# Altium integrated library Renesas Microprocessor SuperH.IntLib: 433 symbols (part 16 of 62)
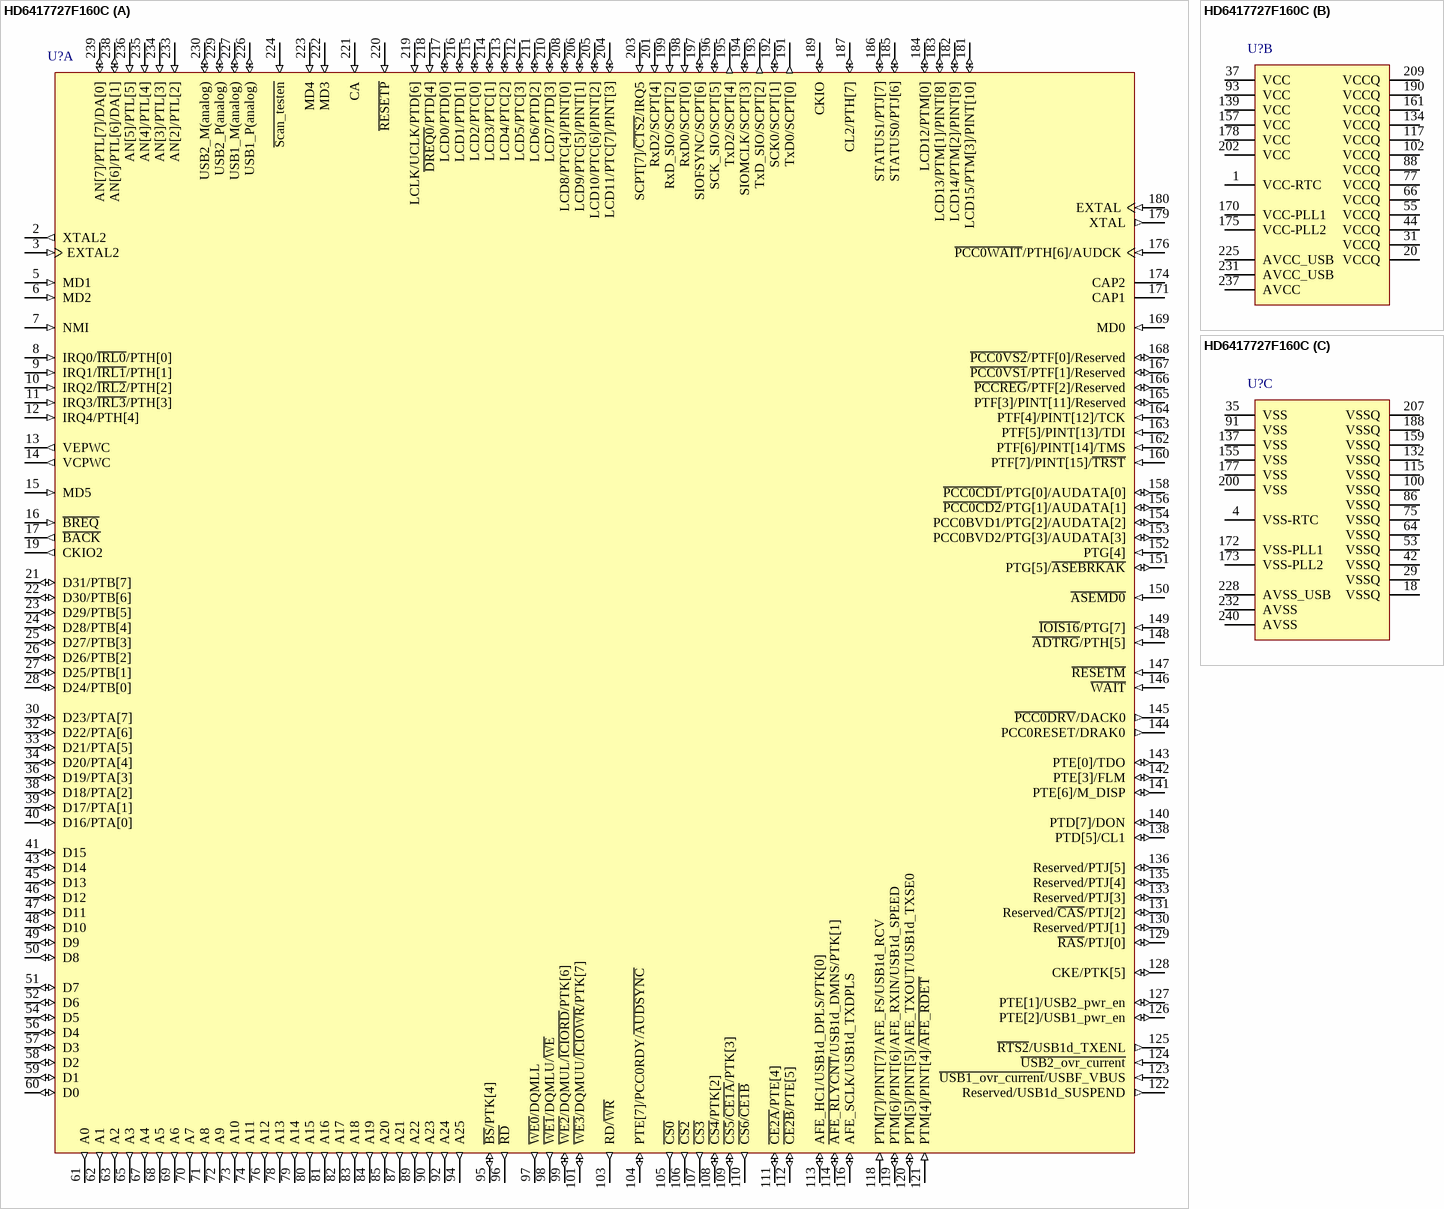
[diagram p390: symbol HD6417727F160C]

## HD6417727F160C
designator U?
32-Bit RISC Microcomputer, SH7700 Series, SH3-DSP core, 160MHz, 16K RAM, 240-pin HQFP, -20 to 75°C; Published: 28-Aug-2009; DatasheetVersion: Rev.6.00, Mar-2009; PackageVersion: Sep-2005; PackageReference: PRQP0240KC-B; Publisher: Altium Limited; PackageDescription: 240-Pin Plastic Quad Flat Pack, 32 x 32 x 3.2 mm Body, 0.5 mm Pitch; Supplier 1: Digi-Key; Supplier Part Number 1: HD6417727F160C-ND; Code_JEITA: P-HQFP240-32x32-0.50; ComponentLink1Description: Manufacturer Link; ComponentLink1URL: http://www.renesas.com/fmwk.jsp?cnt=sh7727_root.jsp&fp=/products/mpumcu/superh_family/sh7700_series/sh7727_group/; ComponentLink2Description: Datasheet; ComponentLink2URL: http://documentation.renesas.com/eng/products/mpumcu/rej09b0254_7727hm.pdf; ComponentLink3Description: Packaging Specification; ComponentLink3URL: http://sg.renesas.com/media/products/common_info/package/pdf/ic/code/prqp0240kc_b.pdf
footprint PRQP0240KC-B_N (Shrink QFP, 240-Leads, Body 32x32mm, Pitch 0.5mm, IPC Medium Density)
footprint PRQP0240KC-B_L (Shrink QFP, 240-Leads, Body 32x32mm, Pitch 0.5mm, IPC High Density)
footprint PRQP0240KC-B_M (Shrink QFP, 240-Leads, Body 32x32mm, Pitch 0.5mm, IPC Low Density)
part A pins: 2 XTAL2 (out) "On-chip RTC crystal oscillator pin", 3 EXTAL2 (in) "On-chip RTC crystal oscillator pin", 5 MD1 (in) "Clock mode setting", 6 MD2 (in) "Clock mode setting", 7 NMI (in) "Nonmaskable interrupt request", 8 IRQ0/~{IRL0}/PTH[0] (in) "External interrupt/external interrupt/input port H", 9 IRQ1/~{IRL1}/PTH[1] (in) "External interrupt/external interrupt/input port H", 10 IRQ2/~{IRL2}/PTH[2] (in) "External interrupt/external interrupt/input port H", 11 IRQ3/~{IRL3}/PTH[3] (in) "External interrupt/external interrupt/input port H", 12 IRQ4/PTH[4] (in) "External interrupt request/input port H", 13 VEPWC (out) "LCD panel VEE control", 14 VCPWC (out) "LCD panel VCC control", 15 MD5 (in) "Endian setting", 16 ~{BREQ} (in) "Bus request", 17 ~{BACK} (out) "Bus acknowledge", 19 CKIO2 (out) "System clock output", 21 D31/PTB[7] (io) "Data bus/I/O port B", 22 D30/PTB[6] (io) "Data bus/I/O port B", 23 D29/PTB[5] (io) "Data bus/I/O port B", 24 D28/PTB[4] (io) "Data bus/I/O port B", 25 D27/PTB[3] (io) "Data bus/I/O port B", 26 D26/PTB[2] (io) "Data bus/I/O port B", 27 D25/PTB[1] (io) "Data bus/I/O port B", 28 D24/PTB[0] (io) "Data bus/I/O port B", 30 D23/PTA[7] (io) "Data bus/I/O port A", 32 D22/PTA[6] (io) "Data bus/I/O port A", 33 D21/PTA[5] (io) "Data bus/I/O port A", 34 D20/PTA[4] (io) "Data bus/I/O port A", 36 D19/PTA[3] (io) "Data bus/I/O port A", 38 D18/PTA[2] (io) "Data bus/I/O port A", 39 D17/PTA[1] (io) "Data bus/I/O port A", 40 D16/PTA[0] (io) "Data bus/I/O port A", 41 D15 (io) "Data bus", 43 D14 (io) "Data bus", 45 D13 (io) "Data bus", 46 D12 (io) "Data bus", 47 D11 (io) "Data bus", 48 D10 (io) "Data bus", 49 D9 (io) "Data bus", 50 D8 (io) "Data bus", 51 D7 (io) "Data bus", 52 D6 (io) "Data bus", 54 D5 (io) "Data bus", 56 D4 (io) "Data bus", 57 D3 (io) "Data bus", 58 D2 (io) "Data bus", 59 D1 (io) "Data bus", 60 D0 (io) "Data bus", 61 A0 (out) "Address bus", 62 A1 (out) "Address bus", 63 A2 (out) "Address bus", 65 A3 (out) "Address bus", 67 A4 (out) "Address bus", 68 A5 (out) "Address bus", 69 A6 (out) "Address bus", 70 A7 (out) "Address bus", 71 A8 (out) "Address bus", 72 A9 (out) "Address bus", 73 A10 (out) "Address bus", 74 A11 (out) "Address bus", 76 A12 (out) "Address bus", 78 A13 (out) "Address bus", 79 A14 (out) "Address bus", 80 A15 (out) "Address bus", 81 A16 (out) "Address bus", 82 A17 (out) "Address bus", 83 A18 (out) "Address bus", 84 A19 (out) "Address bus", 85 A20 (out) "Address bus", 87 A21 (out) "Address bus", 89 A22 (out) "Address bus", 90 A23 (out) "Address bus", 92 A24 (out) "Address bus", 94 A25 (out) "Address bus", 95 ~{BS}/PTK[4] (io) "Bus cycle start signal/I/O port K", 96 ~{RD} (out) "Read strobe", 97 ~{WE0}/DQMLL (out) "D7-D0 select signal/DQM (SDRAM)", 98 ~{WE1}/DQMLU/~{WE} (out) "D15-D8 select signal/DQM (SDRAM)/PCMCIA WE", 99 ~{WE2}/DQMUL/~{ICIORD}/PTK[6] (io) "D23-D16 select signal/DQM (SDRAM)/PCMCIA I/O read/I/O port K", 101 ~{WE3}/DQMUU/~{ICIOWR}/PTK[7] (io) "D31-D24 select signal/DQM (SDRAM)/PCMCIA I/O write/I/O port K", 103 RD/~{WR} (out) "Read/write", 104 PTE[7]/PCC0RDY/~{AUDSYNC} (io) "I/O port E/PCMCIA0 ready/AUD synchronization", 105 ~{CS0} (out) "Chip select 0", 106 ~{CS2} (out) "Chip select 2", 107 ~{CS3} (out) "Chip select 3", 108 ~{CS4}/PTK[2] (io) "Chip select 4/I/O port K", 109 ~{CS5}/~{CE1A}/PTK[3] (io) "Chip select 5/CE1 (area 5 PCMCIA)/I/O port K", 110 ~{CS6}/~{CE1B} (out) "Chip select 6/CE1 (area 6 PCMCIA)", 111 ~{CE2A}/PTE[4] (io) "Area 5 PCMCIA card enable/I/O port E", 112 ~{CE2B}/PTE[5] (io) "Area 6 PCMCIA card enable/I/O port E", 113 AFE_HC1/USB1d_DPLS/PTK[0] (io) "AFE hardware control signal/D+ signal input/I/O port K", 114 ~{AFE_RLYCNT}/USB1d_DMNS/PTK[1] (io) "AFE relay control signal/D- signal input/I/O port K", 116 AFE_SCLK/USB1d_TXDPLS (io) "AFE clock/D+ transmit output", 118 PTM[7]/PINT[7]/AFE_FS/USB1d_RCV (in) "Input port M/port interrupt/AFE frame synchronization/receive data input", 119 PTM[6]/PINT[6]/AFE_RXIN/USB1d_SPEED (io) "Input port M/port interrupt/AFE receive data/transceiver speed control", 120 PTM[5]/PINT[5]/AFE_TXOUT/USB1d_TXSE0 (io) "Input port M/port interrupt/AFE transmit data/SE0 output", 121 PTM[4]/PINT[4]/~{AFE_RDET} (in) "Input port M/port interrupt/AFE ringing detection", 122 Reserved/USB1d_SUSPEND (out) "Reserved/Transceiver suspend state output", 123 ~{USB1_ovr_current}/USBF_VBUS (in) "USB host 1 overcurrent detection/USB function VBUS", 124 ~{USB2_ovr_current} (in) "USB host 2 overcurrent detection", 125 ~{RTS2}/USB1d_TXENL (out) "SCIF RTS pin/USB output enable pin", 126 PTE[2]/USB1_pwr_en (io) "I/O port E/USB1 voltage control", 127 PTE[1]/USB2_pwr_en (io) "I/O port E/USB2 voltage control", 128 CKE/PTK[5] (io) "CK enable (SDRAM)/I/O port K", 129 ~{RAS}/PTJ[0] (io) "RAS for SDRAM/I/O port J", 130 Reserved/PTJ[1] (io) "Reserved/I/O port J", 131 Reserved/~{CAS}/PTJ[2] (io) "Reserved/CAS for SDRAM/I/O port J", 133 Reserved/PTJ[3] (io) "Reserved/I/O port J", 135 Reserved/PTJ[4] (io) "Reserved/I/O port J", 136 Reserved/PTJ[5] (io) "Reserved/I/O port J", 138 PTD[5]/CL1 (io) "I/O port D/LCD line clock", 140 PTD[7]/DON (io) "I/O port D/LCD DISPLAY on", 141 PTE[6]/M_DISP (io) "I/O port E/LCD alternating signal/DISP signal", 142 PTE[3]/FLM (io) "I/O port E/LCD frame line marker", 143 PTE[0]/TDO (io) "I/O port E/test data output", 144 PCC0RESET/DRAK0 (out) "PCC reset/DMA request receive", 145 ~{PCC0DRV}/DACK0 (out) "PCC buffer control/DMA acknowledge 0", 146 ~{WAIT} (in) "Hardware wait request", 147 ~{RESETM} (in) "Manual reset request", 148 ~{ADTRG}/PTH[5] (in) "Analog trigger/input port H", 149 ~{IOIS16}/PTG[7] (in) "IOIS16 (PCMCIA)/input port G", 150 ~{ASEMD0} (in) "ASE mode", 151 PTG[5]/~{ASEBRKAK} (io) "Input port G/ASE break acknowledge", 152 PTG[4] (in) "Input port G", 153 PCC0BVD2/PTG[3]/AUDATA[3] (io) "PCC BVD2 pin/input port G/AUD data", 154 PCC0BVD1/PTG[2]/AUDATA[2] (io) "PCC BVD1 pin/input port G/AUD data", 156 ~{PCC0CD2}/PTG[1]/AUDATA[1] (io) "PCMCIA0 CD2 pin/input port G/AUD data", 158 ~{PCC0CD1}/PTG[0]/AUDATA[0] (io) "PCC CD1 pin/input port G/AUD data", 160 PTF[7]/PINT[15]/~{TRST} (in) "Input port F/port interrupt/test reset", 162 PTF[6]/PINT[14]/TMS (in) "Input port F/port interrupt/test mode switch", 163 PTF[5]/PINT[13]/TDI (in) "Input port F/port interrupt/test data input", 164 PTF[4]/PINT[12]/TCK (in) "Input port F/port interrupt/test clock", 165 PTF[3]/PINT[11]/Reserved (io) "Input port F/port interrupt/Reserved", 166 ~{PCCREG}/PTF[2]/Reserved (io) "PCC REG pin/input port F/Reserved", 167 ~{PCC0VS1}/PTF[1]/Reserved (io) "PCC VS1 pin/input port F/Reserved", 168 ~{PCC0VS2}/PTF[0]/Reserved (io) "PCC VS2 pin/input port F/Reserved", 169 MD0 (in) "Clock mode setting", 171 CAP1 "PLL1 external capacitance pin", 174 CAP2 "PLL2 external capacitance pin", 176 ~{PCC0WAIT}/PTH[6]/AUDCK (in) "PCC hardware wait request/input port H/AUD clock", 179 XTAL (out) "Crystal resonator", 180 EXTAL (in) "External clock/crystal resonator", 181 LCD15/PTM[3]/PINT[10] (io) "LCD data output/input port M/port interrupt", 182 LCD14/PTM[2]/PINT[9] (io) "LCD data output/input port M/port interrupt", 183 LCD13/PTM[1]/PINT[8] (io) "LCD data output/input port M/port interrupt", 184 LCD12/PTM[0] (io) "LCD data output/input port M", 185 STATUS0/PTJ[6] (io) "Processor status/I/O port J", 186 STATUS1/PTJ[7] (io) "Processor status/I/O port J", 187 CL2/PTH[7] (io) "LCD clock output/I/O port H", 189 CKIO (io) "System clock input/output", 191 TxD0/SCPT[0] (out) "Transmit data 0/SCI output port", 192 SCK0/SCPT[1] (io) "Serial clock 0/SCI I/O port", 193 TxD_SIO/SCPT[2] (out) "SIOF transmit data/SCI output port", 194 SIOMCLK/SCPT[3] (io) "SIOF clock input/SCI I/O port", 195 TxD2/SCPT[4] (out) "Transmit data 2/SCI output port", 196 SCK_SIO/SCPT[5] (io) "SIOF communication clock/SCI I/O port", 197 SIOFSYNC/SCPT[6] (io) "SIOF frame synch./SCI I/O port", 198 RxD0/SCPT[0] (in) "Receive data 0/SCI input port", 199 RxD_SIO/SCPT[2] (in) "SIOF receive data/SCI input port", 201 RxD2/SCPT[4] (in) "Receive data 2/SCI input port", 203 SCPT[7]/~{CTS2}/IRQ5 (in) "SCI input port/SCIF clear to send/external interrupt request", 204 LCD11/PTC[7]/PINT[3] (io) "LCD data out/I/O port C/port interrupt", 205 LCD10/PTC[6]/PINT[2] (io) "LCD data out/I/O port C/port interrupt", 206 LCD9/PTC[5]/PINT[1] (io) "LCD data out/I/O port C/port interrupt", 208 LCD8/PTC[4]/PINT[0] (io) "LCD data out/I/O port C/port interrupt", 210 LCD7/PTD[3] (io) "LCD data out/I/O port D", 211 LCD6/PTD[2] (io) "LCD data out/I/O port D", 212 LCD5/PTC[3] (io) "LCD data out/I/O port C", 213 LCD4/PTC[2] (io) "LCD data out/I/O port C", 214 LCD3/PTC[1] (io) "LCD data out/I/O port C", 215 LCD2/PTC[0] (io) "LCD data out/I/O port C", 216 LCD1/PTD[1] (io) "LCD data out/I/O port D", 217 LCD0/PTD[0] (io) "LCD data out/I/O port D", 218 ~{DREQ0}/PTD[4] (in) "DMA request/input port D", 219 LCLK/UCLK/PTD[6] (in) "LCD clock/USB clock/input port D", 220 ~{RESETP} (in) "Power-on reset request", 221 CA (in) "Hardware standby request", 222 MD3 (in) "Area 0 bus width setting", 223 MD4 (in) "Area 0 bus width setting", 224 ~{Scan_testen} (in) "Test pin (pull up to VccQ)", 226 USB1_P(analog) (io) "USB1 data I/O (plus)", 227 USB1_M(analog) (io) "USB1 data I/O (minus)", 229 USB2_P(analog) (io) "USB2 data I/O (plus)", 230 USB2_M(analog) (io) "USB2 data I/O (minus)", 233 AN[2]/PTL[2] (in) "A/D converter input/input port L", 234 AN[3]/PTL[3] (in) "A/D converter input/input port L", 235 AN[4]/PTL[4] (in) "A/D converter input/input port L", 236 AN[5]/PTL[5] (in) "A/D converter input/input port L", 238 AN[6]/PTL[6]/DA[1] (io) "A/D converter input/input port L/D/A converter output", 239 AN[7]/PTL[7]/DA[0] (io) "A/D converter input/input port L/D/A converter output"
part B pins: 1 VCC-RTC (power) "RTC power supply (1.9V)", 20 VCCQ (power) "Input/output power supply (3.3V)", 31 VCCQ (power) "Input/output power supply (3.3V)", 37 VCC (power) "Power supply (1.9V)", 44 VCCQ (power) "Input/output power supply (3.3V)", 55 VCCQ (power) "Input/output power supply (3.3V)", 66 VCCQ (power) "Input/output power supply (3.3V)", 77 VCCQ (power) "Input/output power supply (3.3V)", 88 VCCQ (power) "Input/output power supply (3.3V)", 93 VCC (power) "Power supply (1.9V)", 102 VCCQ (power) "Input/output power supply (3.3V)", 117 VCCQ (power) "Input/output power supply (3.3V)", 134 VCCQ (power) "Input/output power supply (3.3V)", 139 VCC (power) "Power supply (1.9V)", 157 VCC (power) "Power supply (1.9V)", 161 VCCQ (power) "Input/output power supply (3.3V)", 170 VCC-PLL1 (power) "PLL1 power supply (1.9V)", 175 VCC-PLL2 (power) "PLL2 power supply (1.9V)", 178 VCC (power) "Power supply (1.9V)", 190 VCCQ (power) "Input/output power supply (3.3V)", 202 VCC (power) "Power supply (1.9V)", 209 VCCQ (power) "Input/output power supply (3.3V)", 225 AVCC_USB (power) "USB analog power supply (3.3V)", 231 AVCC_USB (power) "USB analog power supply (3.3 V)", 237 AVCC (power) "Analog power supply (3.3V)"
part C pins: 4 VSS-RTC (power) "RTC power supply (0V)", 18 VSSQ (power) "Input/output power supply (0V)", 29 VSSQ (power) "Input/output power supply (0V)", 35 VSS (power) "Power supply (0V)", 42 VSSQ (power) "Input/output power supply (0V)", 53 VSSQ (power) "Input/output power supply (0V)", 64 VSSQ (power) "Input/output power supply (0V)", 75 VSSQ (power) "Input/output power supply (0V)", 86 VSSQ (power) "Input/output power supply (0V)", 91 VSS (power) "Power supply (0V)", 100 VSSQ (power) "Input/output power supply (0V)", 115 VSSQ (power) "Input/output power supply (0V)", 132 VSSQ (power) "Input/output power supply (0V)", 137 VSS (power) "Power supply (0V)", 155 VSS (power) "Power supply (0V)", 159 VSSQ (power) "Input/output power supply (0V)", 172 VSS-PLL1 (power) "PLL1 power supply (0V)", 173 VSS-PLL2 (power) "PLL2 power supply (0V)", 177 VSS (power) "Power supply (0V)", 188 VSSQ (power) "Input/output power supply (0V)", 200 VSS (power) "Power supply (0V)", 207 VSSQ (power) "Input/output power supply (0V)", 228 AVSS_USB (power) "USB analog power supply (0 V)", 232 AVSS (power) "Analog power supply (0V)", 240 AVSS (power) "Analog power supply (0V)"

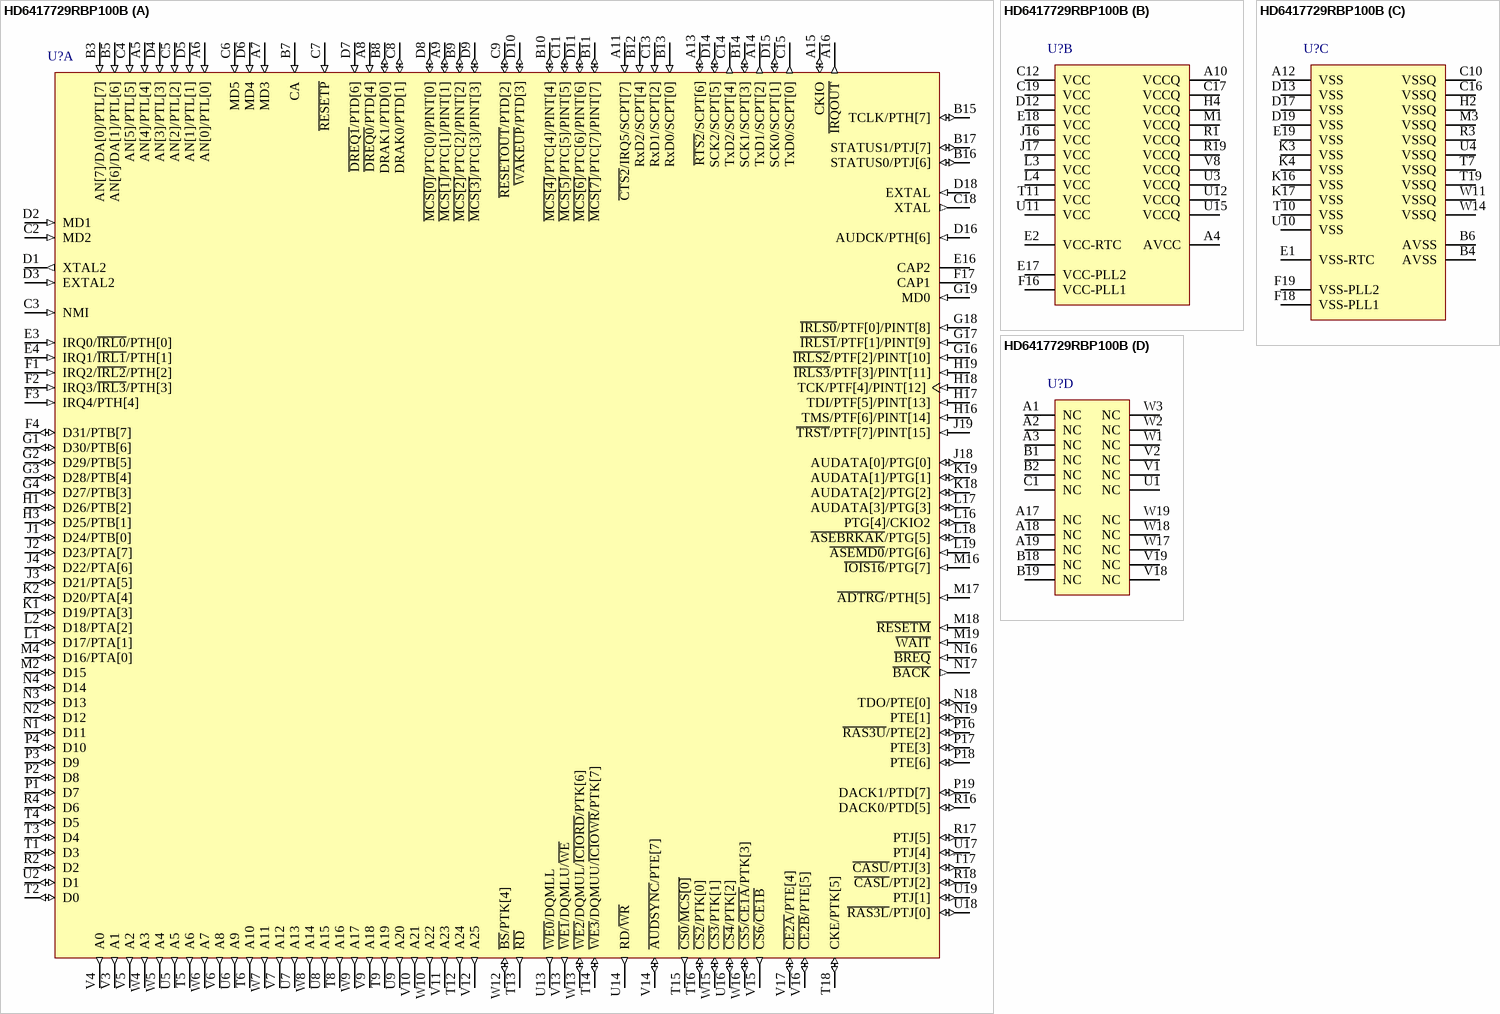
[diagram p57: symbol HD6417729RBP100B]